# EAGLE library part ADS1248 (library _RoweTel)
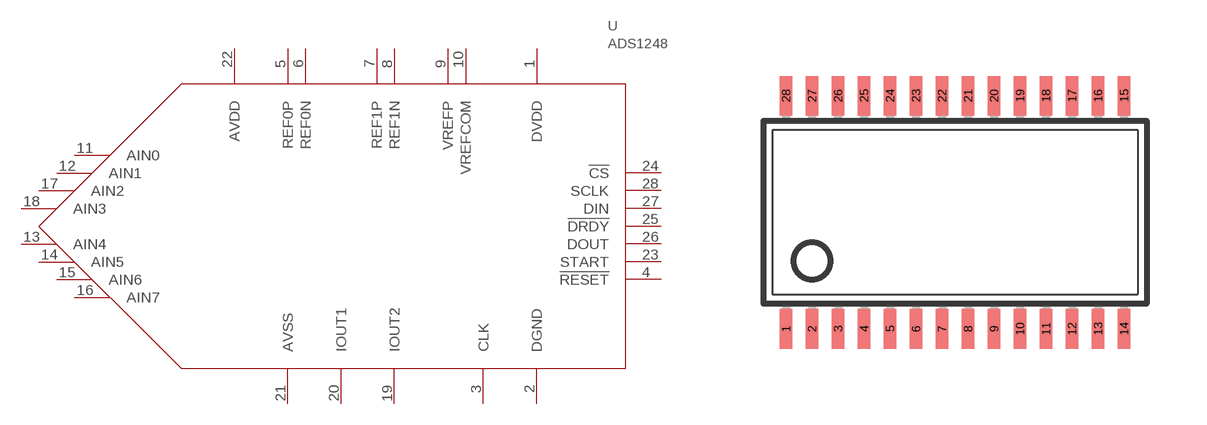
[diagram p6: symbol with the pads of TSSOP28; footprint TSSOP28]

Designator prefix U

## ADS1248  [TSSOP28]
1  DVDD  pwr
2  DGND  pwr
3  CLK
4  !RESET
5  REF0P  in
6  REF0N  in
7  REF1P  in
8  REF1N  in
9  VREFP  out
10  VREFCOM  out
11  AIN0  in
12  AIN1  in
13  AIN4  in
14  AIN5  in
15  AIN6  in
16  AIN7  in
17  AIN2  in
18  AIN3  in
19  IOUT2
20  IOUT1
21  AVSS  pwr
22  AVDD  pwr
23  START
24  !CS  in
25  !DRDY  out
26  DOUT  out
27  DIN  in
28  SCLK  in

## Footprint TSSOP28 (pad centres in mm)
smd 0.305 x 0.991: 1 -4.225,-2.918; 2 -3.575,-2.918; 3 -2.925,-2.918; 4 -2.275,-2.918; 5 -1.625,-2.918; 6 -0.975,-2.918; 7 -0.325,-2.918; 8 0.325,-2.918; 9 0.975,-2.918; 10 1.625,-2.918; 11 2.275,-2.918; 12 2.925,-2.918; 13 3.575,-2.918; 14 4.225,-2.918; 15 4.225,2.918; 16 3.575,2.918; 17 2.925,2.918; 18 2.275,2.918; 19 1.625,2.918; 20 0.975,2.918; 21 0.325,2.918; 22 -0.325,2.918; 23 -0.975,2.918; 24 -1.625,2.918; 25 -2.275,2.918; 26 -2.925,2.918; 27 -3.575,2.918; 28 -4.225,2.918